# EAGLE library part SN74CBTLV3384 (library TI)
low voltage 10-bit FET bus switch
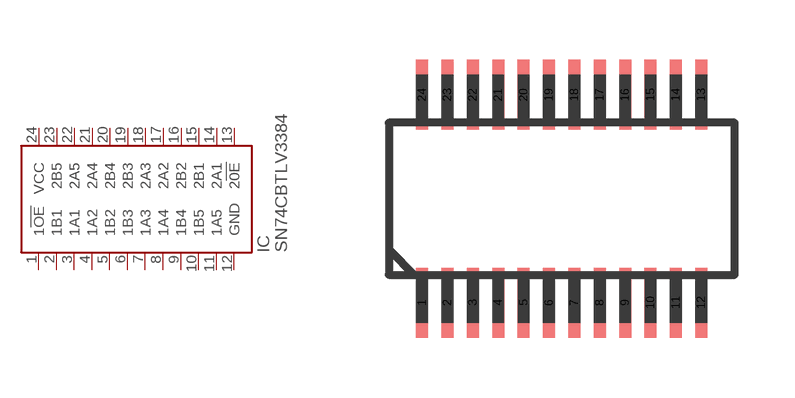
[diagram p1: symbol with the pads of 24-SSOP; footprint 24-SSOP]

Designator prefix IC

## SN74CBTLV3384  [24-SSOP]
1  1!OE
2  1B1
3  1A1
4  1A2
5  1B2
6  1B3
7  1A3
8  1A4
9  1B4
10  1B5
11  1A5
12  GND
13  2!0E
14  2A1
15  2B1
16  2B2
17  2A2
18  2A3
19  2B3
20  2B4
21  2A4
22  2A5
23  2B5
24  VCC

## Footprint 24-SSOP (pad centres in mm)
smd 0.3 x 1.75: 1 -3.493,-2.6; 2 -2.857,-2.6; 3 -2.223,-2.6; 4 -1.587,-2.6; 5 -0.953,-2.6; 6 -0.318,-2.6; 7 0.318,-2.6; 8 0.953,-2.6; 9 1.587,-2.6; 10 2.223,-2.6; 11 2.857,-2.6; 12 3.493,-2.6; 13 3.493,2.6; 14 2.857,2.6; 15 2.223,2.6; 16 1.587,2.6; 17 0.953,2.6; 18 0.318,2.6; 19 -0.318,2.6; 20 -0.953,2.6; 21 -1.587,2.6; 22 -2.223,2.6; 23 -2.857,2.6; 24 -3.493,2.6